# Altium integrated library Jumper.IntLib: 7 symbols
Pins are listed as number, name and electrical type; pins without a type are passive.

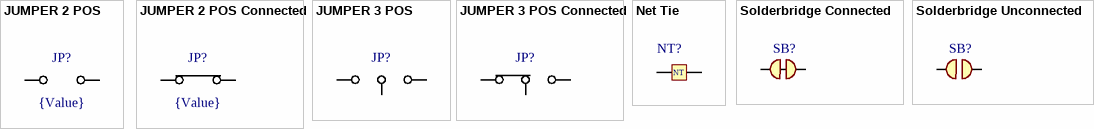
[diagram p0: symbols JUMPER 2 POS to Solderbridge Unconnected]

## JUMPER 2 POS
designator JP?, comment {Value}
JUMPER 2 POS; Value: {Value}
footprint JUMPER2 SMD 1608 (JUMPER SMD 2 LEADS 1608 (0603-Imperial))
footprint JUMPER2 SMD 2012 (JUMPER SMD 2 LEADS 2012 (0805-Imperial))
footprint JUMPER2 SMD 2012 HEVS (JUMPER SMD 2 LEADS 2012 (0805-Imperial))
footprint JUMPER2 SMD 1005 (JUMPER SMD 2 LEADS 1005 (0402-Imperial))
footprint JUMPER2 SMD 1608 Improved (JUMPER SMD 2 LEADS 1608 (0603-Imperial))
footprint JUMPER2 TH
footprint JUMPER2 SMD SMT5100 (SMT PRINTED CIRCUIT BORAD 5100)
pins: 1, 2

## JUMPER 2 POS Connected
designator JP?, comment {Value}  (no BOM)
JUMPER 2 POS; Value: {Value}
footprint JUMPER2 SMD 1005 CONNECTED (JUMPER SMD 2 LEADS 1005 (0402-Imperial))
footprint JUMPER2 SMD 2012 Connected (JUMPER SMD 2 LEADS 2012 (0805-Imperial))
pins: 1, 2

## JUMPER 3 POS
designator JP?, comment {Value}  (value not drawn)
JUMPER 3 POS; Value: {Value}
footprint JUMPER3 TH
footprint JUMPER3 SMD HS (JUMPER3 SMD High speed)
footprint JUMPER3 SMD 2012 (JUMPER SMD 3 LEADS 2012 (0805-Imperial))
footprint JUMPER3 SMD 2012 HEVS (JUMPER SMD 3 LEADS 2012 (0805-Imperial))
footprint JUMPER3 SMD 1608 (JUMPER SMD 3LEADS 1608 (0603-Imperial))
pins: 1, 2, 3

## JUMPER 3 POS Connected
designator JP?, comment {Value}  (value not drawn)  (no BOM)
JUMPER 3 POS; Value: {Value}
footprint JUMPER3 SMD 2012 Connected (JUMPER SMD 3 LEADS 2012 (0805-Imperial))
footprint JUMPER3 SMD 1608 Connected (JUMPER SMD 3LEADS 1608 (0603-Imperial))
pins: 1, 2, 3

## Net Tie
designator NT?  (net tie, no BOM)
Connection for 2 different NETNAME
footprint NET TIE 1005 (Net Tie, connect two different net without DRC error)
footprint NET TIE 2010 (Net Tie, connect two different net without DRC error)
pins: 1, 2
text: NT

## Solderbridge Connected
designator SB?  (value not drawn)  (net tie, no BOM)
Solderbridge Connected; Value: *
footprint Solder Bridge 1mm Connected (Solder Bridge connected by default, cuttable)
pins: 1 0, 2 1

## Solderbridge Unconnected
designator SB?  (value not drawn)  (net tie, no BOM)
Solderbridge Unconnected; Value: *
footprint Solder Bridge 1mm Unconnected (Solder Bridge Unconnected by default, Solderable)
pins: 1 0, 2 1